# Altium footprint library DHT.PcbLib: 1 footprints
Each footprint in its own frame and in the unit in brackets; x right, y up, seen from the top. Pads: shape width x height; smd on the part's side, far side on the other; paste and mask are expansions set on the pad; w line width, h text height; cw(c..) or ccw(c..) is an arc to the next point about the centre after c.
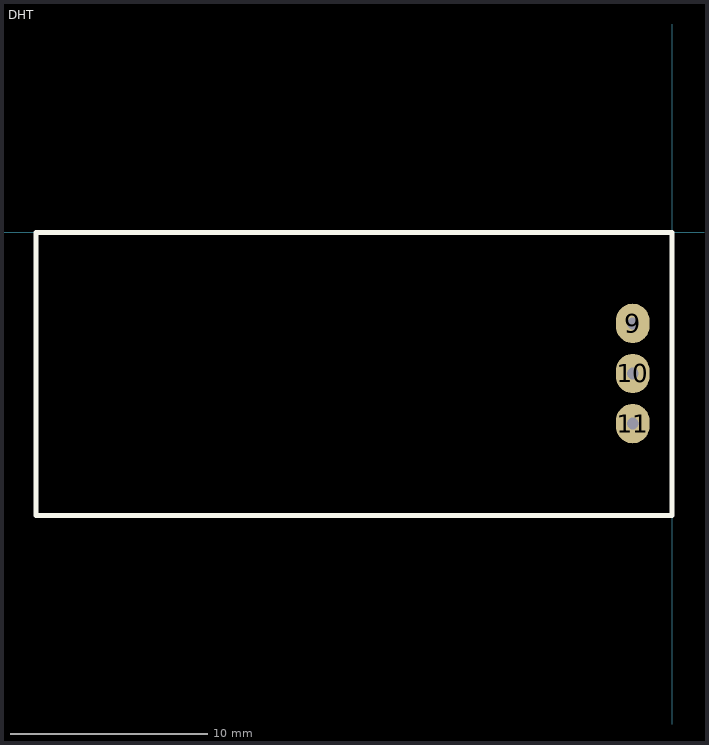
[diagram p0: the footprint, top view; thin cyan lines are the x and y axes]

## DHT [mm]
pads (3):
  oval 1.7x2 hole 0.6: 9(-2,-4.61) 10(-2,-7.15) 11(-2,-9.69)
Top Overlay:
  lines w0.254: -32.258,0 -32.258,-14.351 -0.254,-14.351 0,-14.351 ; -32.2,0 0,0 0,-14.3
3D body "KY-015.step": height 6.46, standoff -2.04, extent -22.102,-14.732 5.592,1.268